# EAGLE library part AD5206BRZ100 (library AD5206BRZ100)
4-Channel Digital Potentiometer
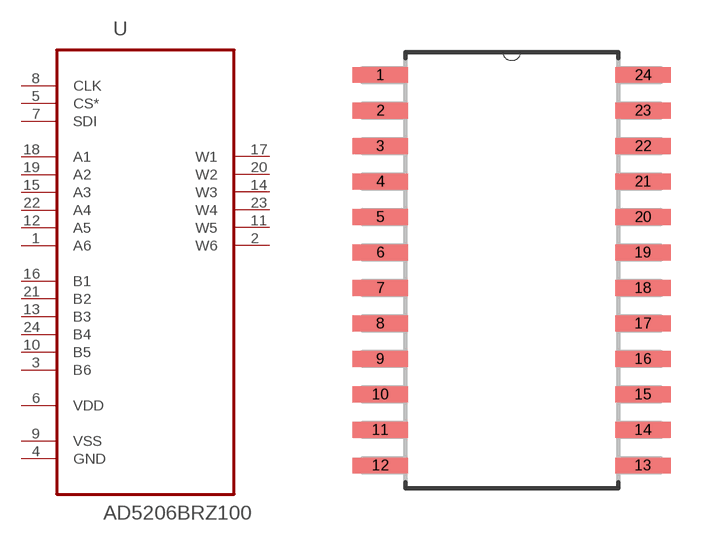
[diagram p0: symbol with the pads of SOIC127P1032X265-24N; footprint SOIC127P1032X265-24N]

Designator prefix U

## AD5206BRZ100 (Availability: Good; Description: IC DGTL POT 256POS 100K 24SOIC; MF: Analog; MP: AD5206BRZ100; Package: SOIC-24 Analog Devices; Price: 4.11 USD)  [SOIC127P1032X265-24N]
1  A6  pas
2  W6  pas
3  B6  pas
4  GND  pas
5  CS*  pas
6  VDD  pwr
7  SDI  pas
8  CLK  pas
9  VSS  pwr
10  B5  pas
11  W5  pas
12  A5  pas
13  B3  pas
14  W3  pas
15  A3  pas
16  B1  pas
17  W1  pas
18  A1  pas
19  A2  pas
20  W2  pas
21  B2  pas
22  A4  pas
23  W4  pas
24  B4  pas

## Footprint SOIC127P1032X265-24N (pad centres in mm)
smd 1.981 x 0.559: 1 -4.699,6.985; 2 -4.699,5.715; 3 -4.699,4.445; 4 -4.699,3.175; 5 -4.699,1.905; 6 -4.699,0.635; 7 -4.699,-0.635; 8 -4.699,-1.905; 9 -4.699,-3.175; 10 -4.699,-4.445; 11 -4.699,-5.715; 12 -4.699,-6.985; 13 4.699,-6.985; 14 4.699,-5.715; 15 4.699,-4.445; 16 4.699,-3.175; 17 4.699,-1.905; 18 4.699,-0.635; 19 4.699,0.635; 20 4.699,1.905; 21 4.699,3.175; 22 4.699,4.445; 23 4.699,5.715; 24 4.699,6.985